# EAGLE library part 838_DIN6 (library 838_Components)
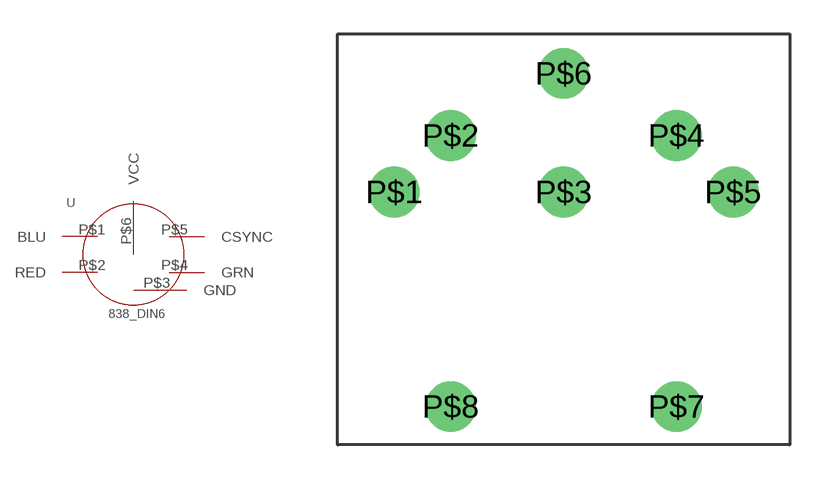
[diagram p24: symbol with the pads of 838_DIN6; footprint 838_DIN6]

Designator prefix -

## 838_DIN6  [838_DIN6]
P$1  BLU
P$2  RED
P$3  GND
P$4  GRN
P$5  CSYNC
P$6  VCC

## Footprint 838_DIN6 (pad centres in mm)
drill 1.5: P$1 -7.5,5; P$2 -5,7.5; P$3 0,5; P$4 5,7.5; P$5 7.5,5; P$6 0,10.25; P$7 5,-4.5; P$8 -5,-4.5